# EAGLE library part DAC8831 (library texas-instruments)
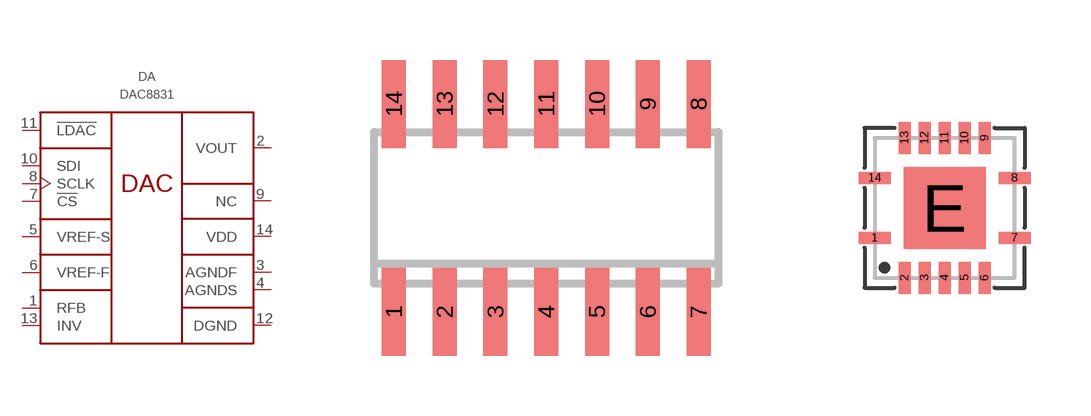
[diagram p14: symbol with the pads of SO14; footprints SO14, QFN-14]

Designator prefix DA

## DAC8831IBDR  [SO14]
1  RFB  pas
2  VOUT  out
3  AGNDF  pwr
4  AGNDS  pwr
5  VREF-S  in
6  VREF-F  in
7  !CS  in
8  SCLK  in
9  NC  nc
10  SDI  in
11  !LDAC  in
12  DGND  pwr
13  INV  pas
14  VDD  pwr

## DAC8831ICDR  [SO14]
Pads as for SO14

## DAC8831IDR  [SO14]
Pads as for SO14

## DAC8831IBRGYT  [QFN-14]
Pads as for SO14

## DAC8831ICRGYT  [QFN-14]
Pads as for SO14

## DAC8831IRGYT  [QFN-14]
Pads as for SO14

## Footprint SO14 (pad centres in mm)
SMALL OUTLINE INTEGRATED CIRCUIT body 3.9 mm/JEDEC MS-012AC
smd 0.6 x 2.2: 1 -3.81,-2.6; 2 -2.54,-2.6; 3 -1.27,-2.6; 4 0,-2.6; 5 1.27,-2.6; 6 2.54,-2.6; 7 3.81,-2.6; 8 3.81,2.6; 9 2.54,2.6; 10 1.27,2.6; 11 0,2.6; 12 -1.27,2.6; 13 -2.54,2.6; 14 -3.81,2.6

## Footprint QFN-14 (pad centres in mm)
smd 0.8 x 0.3: 1 -1.75,-0.75; 7 1.75,-0.75; 8 1.75,0.75; 14 -1.75,0.75
smd 0.3 x 0.8: 2 -1,-1.75; 3 -0.5,-1.75; 4 0,-1.75; 5 0.5,-1.75; 6 1,-1.75; 9 1,1.75; 10 0.5,1.75; 11 0,1.75; 12 -0.5,1.75; 13 -1,1.75
smd 2.05 x 2.05: E 0,0